# Altium schematic symbol library MISC.SchLib: 16 symbols
Pins are listed as number, name and electrical type; pins without a type are passive.

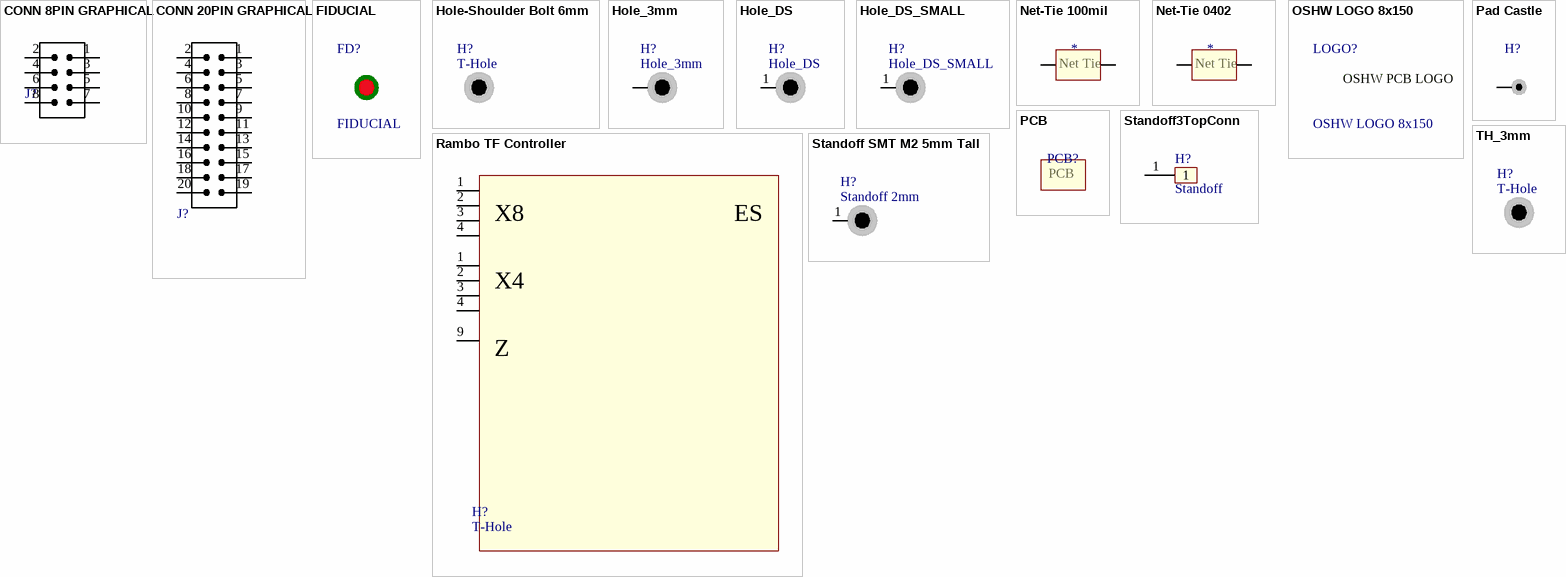
[diagram p0: symbols CONN 8PIN GRAPHICAL to TH_3mm]

## CONN 8PIN GRAPHICAL
designator J?, comment HDR8  (value not drawn)
pins: 1 S, 2 S, 3 S, 4 S, 5 S, 6 S, 7 S, 8 S

## CONN 20PIN GRAPHICAL
designator J?, comment HDR20  (value not drawn)
pins: 1 S, 2 S, 3 S, 4 S, 5 S, 6 S, 7 S, 8 S, 9 S, 10 S, 11 S, 12 S, 13 S, 14 S, 15 S, 16 S, 17 S, 18 S, 19 S, 20 S

## FIDUCIAL
designator FD?
MANUFACTURER #: NOTAPART-Fiducial
footprint FIDUCIAL-1X2
footprint FIDUCIAL-2x3-Panel

## Hole-Shoulder Bolt 6mm
designator H?, comment T-Hole  (no BOM)
MANUFACTURER #: NOTAPART-Hole
footprint Shoulder Bolt 6mm (5.1mm hole)

## Hole_3mm
designator H?  (no BOM)
MANUFACTURER #: NOTAPART-Hole
footprint HOLE 3mm
pins: ?1 1 (power)

## Hole_DS
designator H?  (no BOM)
MANUFACTURER #: NOTAPART-Hole
footprint Wave_hole_3x7-doubleSided
pins: 1 (power)

## Hole_DS_SMALL
designator H?  (no BOM)
MANUFACTURER #: NOTAPART-Hole
footprint Wave_hole_3x7-doubleSided Reduced
pins: 1 (power)

## Net-Tie 100mil
designator *  (value not drawn)  (net tie, no BOM)
footprint Net Tie - 100mil
pins: 1 (power), 2 (power) "1"
text: Net Tie

## Net-Tie 0402
designator *  (value not drawn)  (net tie)
footprint Net Tie - R0402
pins: 1 (power), 2 (power) "1"
text: Net Tie

## OSHW LOGO 8x150
designator LOGO?  (no BOM)
MANUFACTURER #: NOTAPART-OSHW LOGO
footprint OSHW_8X150_NOTEXT
footprint FIDUCIAL-2x3-Panel
text: OSHW PCB LOGO

## Pad Castle
designator H?, comment Pad-Castle  (value not drawn)  (no BOM)
MANUFACTURER #: Castellated Hole; PART DESCRIPTION: Castellated Hole
footprint Castle Hole
pins: 1 (power)

## PCB
designator PCB?
Printed Circuit Board; MANUFACTURER: PCB; MANUFACTURER #: PCB; PART: PCB; PART DESCRIPTION: PCB

## Rambo TF Controller
designator H?, comment T-Hole  (no BOM)
Rambo TF Controller; MANUFACTURER #: NOTAPART-Hole
pins: 1, 1, 2, 2, 3, 3, 4, 4, 9
text: X8; ES; X4; Z

## Standoff3TopConn
designator H?, comment Standoff  (no BOM)
Mechanical - Top connect; MANUFACTURER #: NOTAPART-Hole
footprint Standoff3mmTopConn
pins: 1 (power)

## Standoff SMT M2 5mm Tall
designator H?, comment Standoff 2mm
Round Standoff Threaded M2x0.4 Steel 0.197" (5.00mm); MANUFACTURER #: 9774050243R; MANUFACTURER: Würth Elektronik; PART DESCRIPTION: Round Standoff Threaded M2x0.4 Steel 0.197" (5.00mm)
footprint Standoff SMT-M2 5mm Tall
pins: 1 (power)

## TH_3mm
designator H?, comment T-Hole  (no BOM)
MANUFACTURER #: NOTAPART-Hole
footprint TH_3mm